# Altium schematic symbol library 6902 0710 xx 72.SchLib: 12 symbols
Pins are listed as number, name and electrical type; pins without a type are passive.

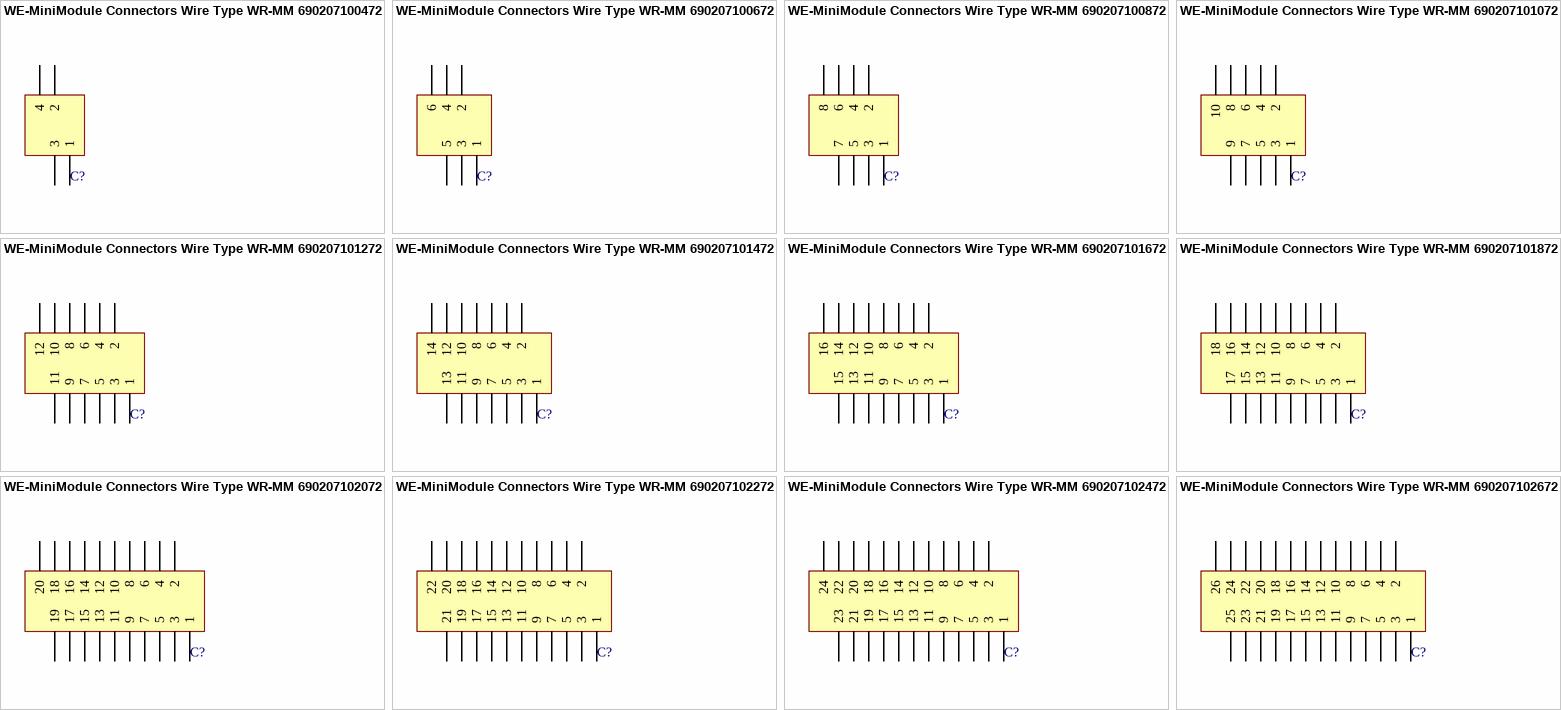
[diagram p0: symbols WE-MiniModule Connectors Wire Type WR-MM 690207100472 to WE-MiniModule Connectors Wire Type WR-MM 690207102672]

## WE-MiniModule Connectors Wire Type WR-MM 690207100472
designator C?
WR-MM Transition Connector; Manufacturer: Würth Elektronik eiSos GmbH; ComponentLink1 Description: Manufacturer; ComponentLink2 Description: Datasheet; NoPins: 4; Created Date: 19 April 2013; partNo: 690207100472; ComponentLink1URL: http://www.we-online.com; ComponentLink2URL: http://katalog.we-online.de/em/datasheet/69020710xx72.pdf; Created by: Karrer Zheng
footprint 690207100472 (4 pins)
pins: 1, 2, 3, 4

## WE-MiniModule Connectors Wire Type WR-MM 690207100672
designator C?
WR-MM Transition Connector; Manufacturer: Würth Elektronik eiSos GmbH; ComponentLink1 Description: Manufacturer; ComponentLink2 Description: Datasheet; NoPins: 6; Created Date: 19 April 2013; partNo: 690207100672; ComponentLink1URL: http://www.we-online.com; ComponentLink2URL: http://katalog.we-online.de/em/datasheet/69020710xx72.pdf; Created by: Karrer Zheng
footprint 690207100672 (6 pins)
pins: 1, 2, 3, 4, 5, 6

## WE-MiniModule Connectors Wire Type WR-MM 690207100872
designator C?
WR-MM Transition Connector; Manufacturer: Würth Elektronik eiSos GmbH; ComponentLink1 Description: Manufacturer; ComponentLink2 Description: Datasheet; NoPins: 8; Created Date: 19 April 2013; partNo: 690207100872; ComponentLink1URL: http://www.we-online.com; ComponentLink2URL: http://katalog.we-online.de/em/datasheet/69020710xx72.pdf; Created by: Karrer Zheng
footprint 690207100872 (8 pins)
pins: 1, 2, 3, 4, 5, 6, 7, 8

## WE-MiniModule Connectors Wire Type WR-MM 690207101072
designator C?
WR-MM Transition Connector; Manufacturer: Würth Elektronik eiSos GmbH; ComponentLink1 Description: Manufacturer; ComponentLink2 Description: Datasheet; NoPins: 10; Created Date: 19 April 2013; partNo: 690207101072; ComponentLink1URL: http://www.we-online.com; ComponentLink2URL: http://katalog.we-online.de/em/datasheet/69020710xx72.pdf; Created by: Karrer Zheng
footprint 690207101072 (10 pins)
pins: 1, 2, 3, 4, 5, 6, 7, 8, 9, 10

## WE-MiniModule Connectors Wire Type WR-MM 690207101272
designator C?
WR-MM Transition Connector; Manufacturer: Würth Elektronik eiSos GmbH; ComponentLink1 Description: Manufacturer; ComponentLink2 Description: Datasheet; NoPins: 12; Created Date: 19 April 2013; partNo: 690207101272; ComponentLink1URL: http://www.we-online.com; ComponentLink2URL: http://katalog.we-online.de/em/datasheet/69020710xx72.pdf; Created by: Karrer Zheng
footprint 690207101272 (12 pins)
pins: 1, 2, 3, 4, 5, 6, 7, 8, 9, 10, 11, 12

## WE-MiniModule Connectors Wire Type WR-MM 690207101472
designator C?
WR-MM Transition Connector; Manufacturer: Würth Elektronik eiSos GmbH; ComponentLink1 Description: Manufacturer; ComponentLink2 Description: Datasheet; NoPins: 14; Created Date: 19 April 2013; partNo: 690207101472; ComponentLink1URL: http://www.we-online.com; ComponentLink2URL: http://katalog.we-online.de/em/datasheet/69020710xx72.pdf; Created by: Karrer Zheng
footprint 690207101472 (14 pins)
pins: 1, 2, 3, 4, 5, 6, 7, 8, 9, 10, 11, 12, 13, 14

## WE-MiniModule Connectors Wire Type WR-MM 690207101672
designator C?
WR-MM Transition Connector; Manufacturer: Würth Elektronik eiSos GmbH; ComponentLink1 Description: Manufacturer; ComponentLink2 Description: Datasheet; NoPins: 16; Created Date: 19 April 2013; partNo: 690207101672; ComponentLink1URL: http://www.we-online.com; ComponentLink2URL: http://katalog.we-online.de/em/datasheet/69020710xx72.pdf; Created by: Karrer Zheng
footprint 690207101672 (16 pins)
pins: 1, 2, 3, 4, 5, 6, 7, 8, 9, 10, 11, 12, 13, 14, 15, 16

## WE-MiniModule Connectors Wire Type WR-MM 690207101872
designator C?
WR-MM Transition Connector; Manufacturer: Würth Elektronik eiSos GmbH; ComponentLink1 Description: Manufacturer; ComponentLink2 Description: Datasheet; NoPins: 18; Created Date: 19 April 2013; partNo: 690207101872; ComponentLink1URL: http://www.we-online.com; ComponentLink2URL: http://katalog.we-online.de/em/datasheet/69020710xx72.pdf; Created by: Karrer Zheng
footprint 690207101872 (18 pins)
pins: 1, 2, 3, 4, 5, 6, 7, 8, 9, 10, 11, 12, 13, 14, 15, 16, 17, 18

## WE-MiniModule Connectors Wire Type WR-MM 690207102072
designator C?
WR-MM Transition Connector; Manufacturer: Würth Elektronik eiSos GmbH; ComponentLink1 Description: Manufacturer; ComponentLink2 Description: Datasheet; NoPins: 20; Created Date: 19 April 2013; partNo: 690207102072; ComponentLink1URL: http://www.we-online.com; ComponentLink2URL: http://katalog.we-online.de/em/datasheet/69020710xx72.pdf; Created by: Karrer Zheng
footprint 690207102072 (20 pins)
pins: 1, 2, 3, 4, 5, 6, 7, 8, 9, 10, 11, 12, 13, 14, 15, 16, 17, 18, 19, 20

## WE-MiniModule Connectors Wire Type WR-MM 690207102272
designator C?
WR-MM Transition Connector; Manufacturer: Würth Elektronik eiSos GmbH; ComponentLink1 Description: Manufacturer; ComponentLink2 Description: Datasheet; NoPins: 22; Created Date: 19 April 2013; partNo: 690207102272; ComponentLink1URL: http://www.we-online.com; ComponentLink2URL: http://katalog.we-online.de/em/datasheet/69020710xx72.pdf; Created by: Karrer Zheng
footprint 690207102272 (22 pins)
pins: 1, 2, 3, 4, 5, 6, 7, 8, 9, 10, 11, 12, 13, 14, 15, 16, 17, 18, 19, 20, 21, 22

## WE-MiniModule Connectors Wire Type WR-MM 690207102472
designator C?
WR-MM Transition Connector; Manufacturer: Würth Elektronik eiSos GmbH; ComponentLink1 Description: Manufacturer; ComponentLink2 Description: Datasheet; NoPins: 24; Created Date: 19 April 2013; partNo: 690207102472; ComponentLink1URL: http://www.we-online.com; ComponentLink2URL: http://katalog.we-online.de/em/datasheet/69020710xx72.pdf; Created by: Karrer Zheng
footprint 690207102472 (24 pins)
pins: 1, 2, 3, 4, 5, 6, 7, 8, 9, 10, 11, 12, 13, 14, 15, 16, 17, 18, 19, 20, 21, 22, 23, 24

## WE-MiniModule Connectors Wire Type WR-MM 690207102672
designator C?
WR-MM Transition Connector; Manufacturer: Würth Elektronik eiSos GmbH; ComponentLink1 Description: Manufacturer; ComponentLink2 Description: Datasheet; NoPins: 26; Created Date: 19 April 2013; partNo: 690207102672; ComponentLink1URL: http://www.we-online.com; ComponentLink2URL: http://katalog.we-online.de/em/datasheet/69020710xx72.pdf; Created by: Karrer Zheng
footprint 690207102672 (26 pins)
pins: 1, 2, 3, 4, 5, 6, 7, 8, 9, 10, 11, 12, 13, 14, 15, 16, 17, 18, 19, 20, 21, 22, 23, 24, 25, 26